# EAGLE library part SMD-RGB-HI-LIGHT(6P-L5.0*W5.0*H1.5MM) (library Seeed-OPL-Diode)
304090049
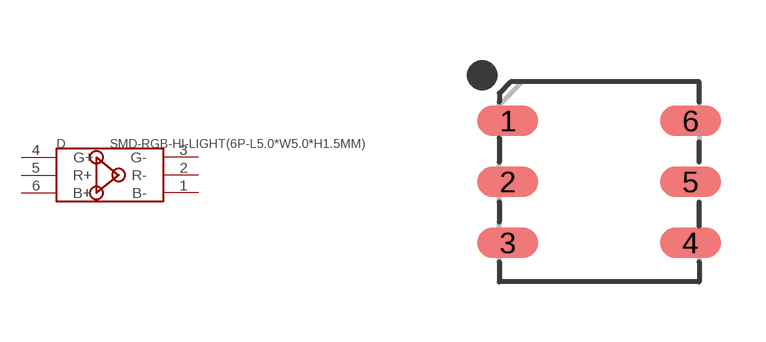
[diagram p0: symbol with the pads of LED6-SMD-5050; footprint LED6-SMD-5050]

Designator prefix D

## SMD-RGB-HI-LIGHT(6P-L5.0W5.0H1.5MM)-5050 (MPN: 5050RGB; VALUE: RGB-6P-5050)  [LED6-SMD-5050]
1  B-
2  R-
3  G-
4  G+
5  R+
6  B+

## Footprint LED6-SMD-5050 (pad centres in mm)
smd 1.524 x 0.762: 1 -2.286,1.524; 2 -2.286,0; 3 -2.286,-1.524; 4 2.286,-1.524; 5 2.286,0; 6 2.286,1.524